# EAGLE library part OV7710 (library Traficon)
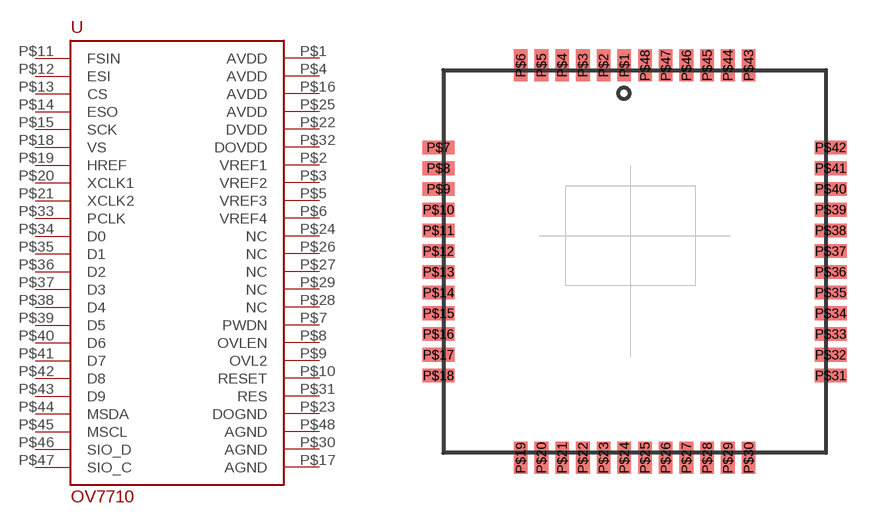
[diagram p172: symbol with the pads of QFP2-48; footprint QFP2-48]

Designator prefix U

## OV7710  [QFP2-48]
P$1  AVDD  sup
P$2  VREF1  pas
P$3  VREF2  pas
P$4  AVDD  sup
P$5  VREF3  pas
P$6  VREF4  pas
P$7  PWDN  in
P$8  OVLEN  in
P$9  OVL2  in
P$10  RESET  in
P$11  FSIN  in
P$12  ESI  in
P$13  CS  out
P$14  ESO
P$15  SCK
P$16  AVDD  sup
P$17  AGND  sup
P$18  VS  out
P$19  HREF  out
P$20  XCLK1  in
P$21  XCLK2  out
P$22  DVDD  sup
P$23  DOGND  sup
P$24  NC  nc
P$25  AVDD  sup
P$26  NC  nc
P$27  NC  nc
P$28  NC  nc
P$29  NC  nc
P$30  AGND  sup
P$31  RES  in
P$32  DOVDD  sup
P$33  PCLK  out
P$34  D0  out
P$35  D1  out
P$36  D2  out
P$37  D3  out
P$38  D4  out
P$39  D5  out
P$40  D6  out
P$41  D7  out
P$42  D8  out
P$43  D9  out
P$44  MSDA
P$45  MSCL  out
P$46  SIO_D
P$47  SIO_C  in
P$48  AGND  sup

## Footprint QFP2-48 (pad centres in mm)
smd 0.43 x 1: P$1 -0.325,6.15; P$2 -0.975,6.15; P$3 -1.625,6.15; P$4 -2.275,6.15; P$5 -2.925,6.15; P$6 -3.575,6.15; P$19 -3.575,-6.15; P$20 -2.925,-6.15; P$21 -2.275,-6.15; P$22 -1.625,-6.15; P$23 -0.975,-6.15; P$24 -0.325,-6.15; P$25 0.325,-6.15; P$26 0.975,-6.15; P$27 1.625,-6.15; P$28 2.275,-6.15; P$29 2.925,-6.15; P$30 3.575,-6.15; P$43 3.575,6.15; P$44 2.925,6.15; P$45 2.275,6.15; P$46 1.625,6.15; P$47 0.975,6.15; P$48 0.325,6.15
smd 1 x 0.43: P$7 -6.15,3.575; P$8 -6.15,2.925; P$9 -6.15,2.275; P$10 -6.15,1.625; P$11 -6.15,0.975; P$12 -6.15,0.325; P$13 -6.15,-0.325; P$14 -6.15,-0.975; P$15 -6.15,-1.625; P$16 -6.15,-2.275; P$17 -6.15,-2.925; P$18 -6.15,-3.575; P$31 6.15,-3.575; P$32 6.15,-2.925; P$33 6.15,-2.275; P$34 6.15,-1.625; P$35 6.15,-0.975; P$36 6.15,-0.325; P$37 6.15,0.325; P$38 6.15,0.975; P$39 6.15,1.625; P$40 6.15,2.275; P$41 6.15,2.925; P$42 6.15,3.575